# Altium schematic symbol library regulator.SchLib: 4 symbols
Pins are listed as number, name and electrical type; pins without a type are passive.

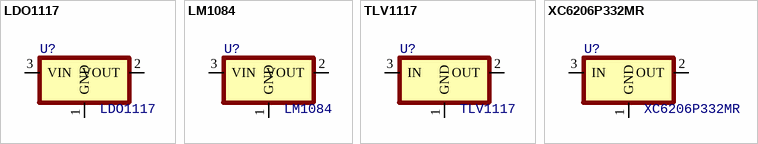
[diagram p0: symbols LDO1117 to XC6206P332MR]

## LDO1117
designator U?
Regulator LDO; Type: SOT223-3
footprint _SOT223-3
footprint _SOT89-3
footprint _TO-252AA
pins: 1 GND, 2 VOUT, 3 VIN

## LM1084
designator U?
Regulator
footprint _TO-263-3
pins: 1 GND, 2 VOUT (power), 3 VIN

## TLV1117
designator U?
Regulator
footprint _SOT223-3
pins: 1 GND (power), 2 OUT (power), 3 IN (power)

## XC6206P332MR
designator U?
Regulator LDO
footprint _SOT23-3
pins: 1 GND (power), 2 OUT (power), 3 IN (power)